# Altium footprint library ZC323000.PcbLib: 1 footprints
Each footprint in its own frame and in the unit in brackets; x right, y up, seen from the top. Pads: shape width x height; smd on the part's side, far side on the other; paste and mask are expansions set on the pad; w line width, h text height; cw(c..) or ccw(c..) is an arc to the next point about the centre after c.
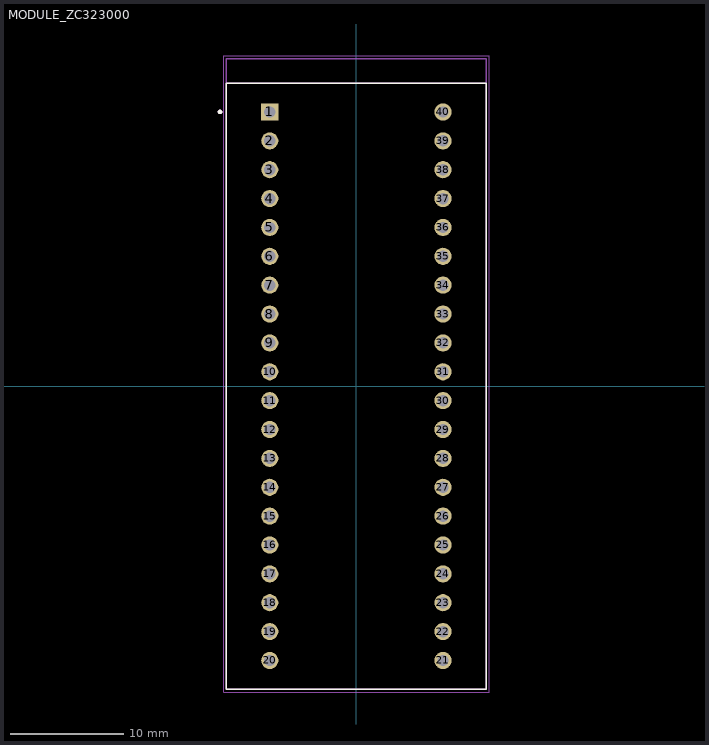
[diagram p0: the footprint, top view; thin cyan lines are the x and y axes]

## MODULE_ZC323000 [mm]
pads (40):
  rect 1.508x1.508 hole 1: 1(-7.62,24.13)
  round 1.508 hole 1: 2(-7.62,21.59) 3(-7.62,19.05) 4(-7.62,16.51) 5(-7.62,13.97) 6(-7.62,11.43) 7(-7.62,8.89) 8(-7.62,6.35) 9(-7.62,3.81) 10(-7.62,1.27) 11(-7.62,-1.27) 12(-7.62,-3.81) 13(-7.62,-6.35) 14(-7.62,-8.89) 15(-7.62,-11.43) 16(-7.62,-13.97) 17(-7.62,-16.51) 18(-7.62,-19.05) 19(-7.62,-21.59) 20(-7.62,-24.13) 21(7.62,-24.13) 22(7.62,-21.59) 23(7.62,-19.05) 24(7.62,-16.51) 25(7.62,-13.97) 26(7.62,-11.43) 27(7.62,-8.89) 28(7.62,-6.35) 29(7.62,-3.81) 30(7.62,-1.27) 31(7.62,1.27) 32(7.62,3.81) 33(7.62,6.35) 34(7.62,8.89) 35(7.62,11.43) 36(7.62,13.97) 37(7.62,16.51) 38(7.62,19.05) 39(7.62,21.59) 40(7.62,24.13)
Top Overlay:
  circle w0.2: c-12,24.13 r0.1
  lines w0.127: -11.43,-26.67 -11.43,26.67 11.43,26.67 11.43,-26.67 -11.43,-26.67
Mechanical 13:
  circle w0.2: c-12,24.13 r0.1
  lines w0.127: -11.43,26.67 11.43,26.67 ; -11.43,26.67 -11.43,28.82 11.43,28.82 11.43,26.67 ; -11.43,26.67 -11.43,-26.67 11.43,-26.67 11.43,26.67
Mechanical 15:
  lines w0.05: -11.68,-26.92 -11.68,29.07 11.68,29.07 11.68,-26.92 -11.68,-26.92